# EAGLE library part ARDUINO_PRO_MINI (library ARDUINO_PRO_MINI)
ATmega328 Arduino Pro Mini 328 5V/16MHz AVR® ATmega AVR MCU 8-Bit Embedded Evaluation Board Check availability <https://pricing.snapeda.com/parts/Arduino%20Pro%20Mini/Arduino/view-part?ref=eda>
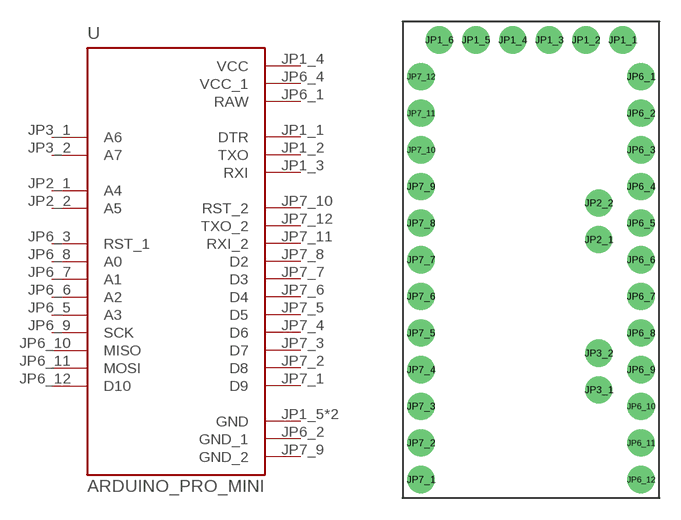
[diagram p0: symbol with the pads of MODULE_ARDUINO_PRO_MINI; footprint MODULE_ARDUINO_PRO_MINI]

Designator prefix U

## ARDUINO_PRO_MINI (Availability: Not in stock; Description: This board was developed for applications and installations where space is premium and projects are made as permanent set ups. Small, available in 3.3 V and 5 V versions, powered by ATmega328P.; MF: Arduino; MP: Arduino Pro Mini; Package: None; Price: None)  [MODULE_ARDUINO_PRO_MINI]
JP1_1  DTR  in
JP1_2  TXO
JP1_3  RXI
JP1_4  VCC  pwr
JP1_5  GND  pwr
JP1_6  GND  pwr
JP2_1  A4
JP2_2  A5
JP3_1  A6  in
JP3_2  A7  in
JP6_1  RAW  pwr
JP6_2  GND_1  pwr
JP6_3  RST_1  in
JP6_4  VCC_1  pwr
JP6_5  A3
JP6_6  A2
JP6_7  A1
JP6_8  A0
JP6_9  SCK
JP6_10  MISO
JP6_11  MOSI
JP6_12  D10
JP7_1  D9
JP7_2  D8
JP7_3  D7
JP7_4  D6
JP7_5  D5
JP7_6  D4
JP7_7  D3
JP7_8  D2
JP7_9  GND_2  pwr
JP7_10  RST_2  in
JP7_11  RXI_2
JP7_12  TXO_2

## Footprint MODULE_ARDUINO_PRO_MINI (pad centres in mm)
drill 1.016 pad 1.88: JP1_1 6.35,15.24; JP1_2 3.81,15.24; JP1_3 1.27,15.24; JP1_4 -1.27,15.24; JP1_5 -3.81,15.24; JP1_6 -6.35,15.24; JP2_1 4.699,1.397; JP2_2 4.699,3.937; JP3_1 4.699,-9.017; JP3_2 4.699,-6.477; JP6_1 7.62,12.7; JP6_2 7.62,10.16; JP6_3 7.62,7.62; JP6_4 7.62,5.08; JP6_5 7.62,2.54; JP6_6 7.62,0; JP6_7 7.62,-2.54; JP6_8 7.62,-5.08; JP6_9 7.62,-7.62; JP6_10 7.62,-10.16; JP6_11 7.62,-12.7; JP6_12 7.62,-15.24; JP7_1 -7.62,-15.24; JP7_2 -7.62,-12.7; JP7_3 -7.62,-10.16; JP7_4 -7.62,-7.62; JP7_5 -7.62,-5.08; JP7_6 -7.62,-2.54; JP7_7 -7.62,0; JP7_8 -7.62,2.54; JP7_9 -7.62,5.08; JP7_10 -7.62,7.62; JP7_11 -7.62,10.16; JP7_12 -7.62,12.7